# Altium footprint library PCB_TCC.PcbLib: 37 footprints (part 2 of 3)
Each footprint in its own frame and in the unit in brackets; x right, y up, seen from the top. Pads: shape width x height; smd on the part's side, far side on the other; paste and mask are expansions set on the pad; w line width, h text height; cw(c..) or ccw(c..) is an arc to the next point about the centre after c.
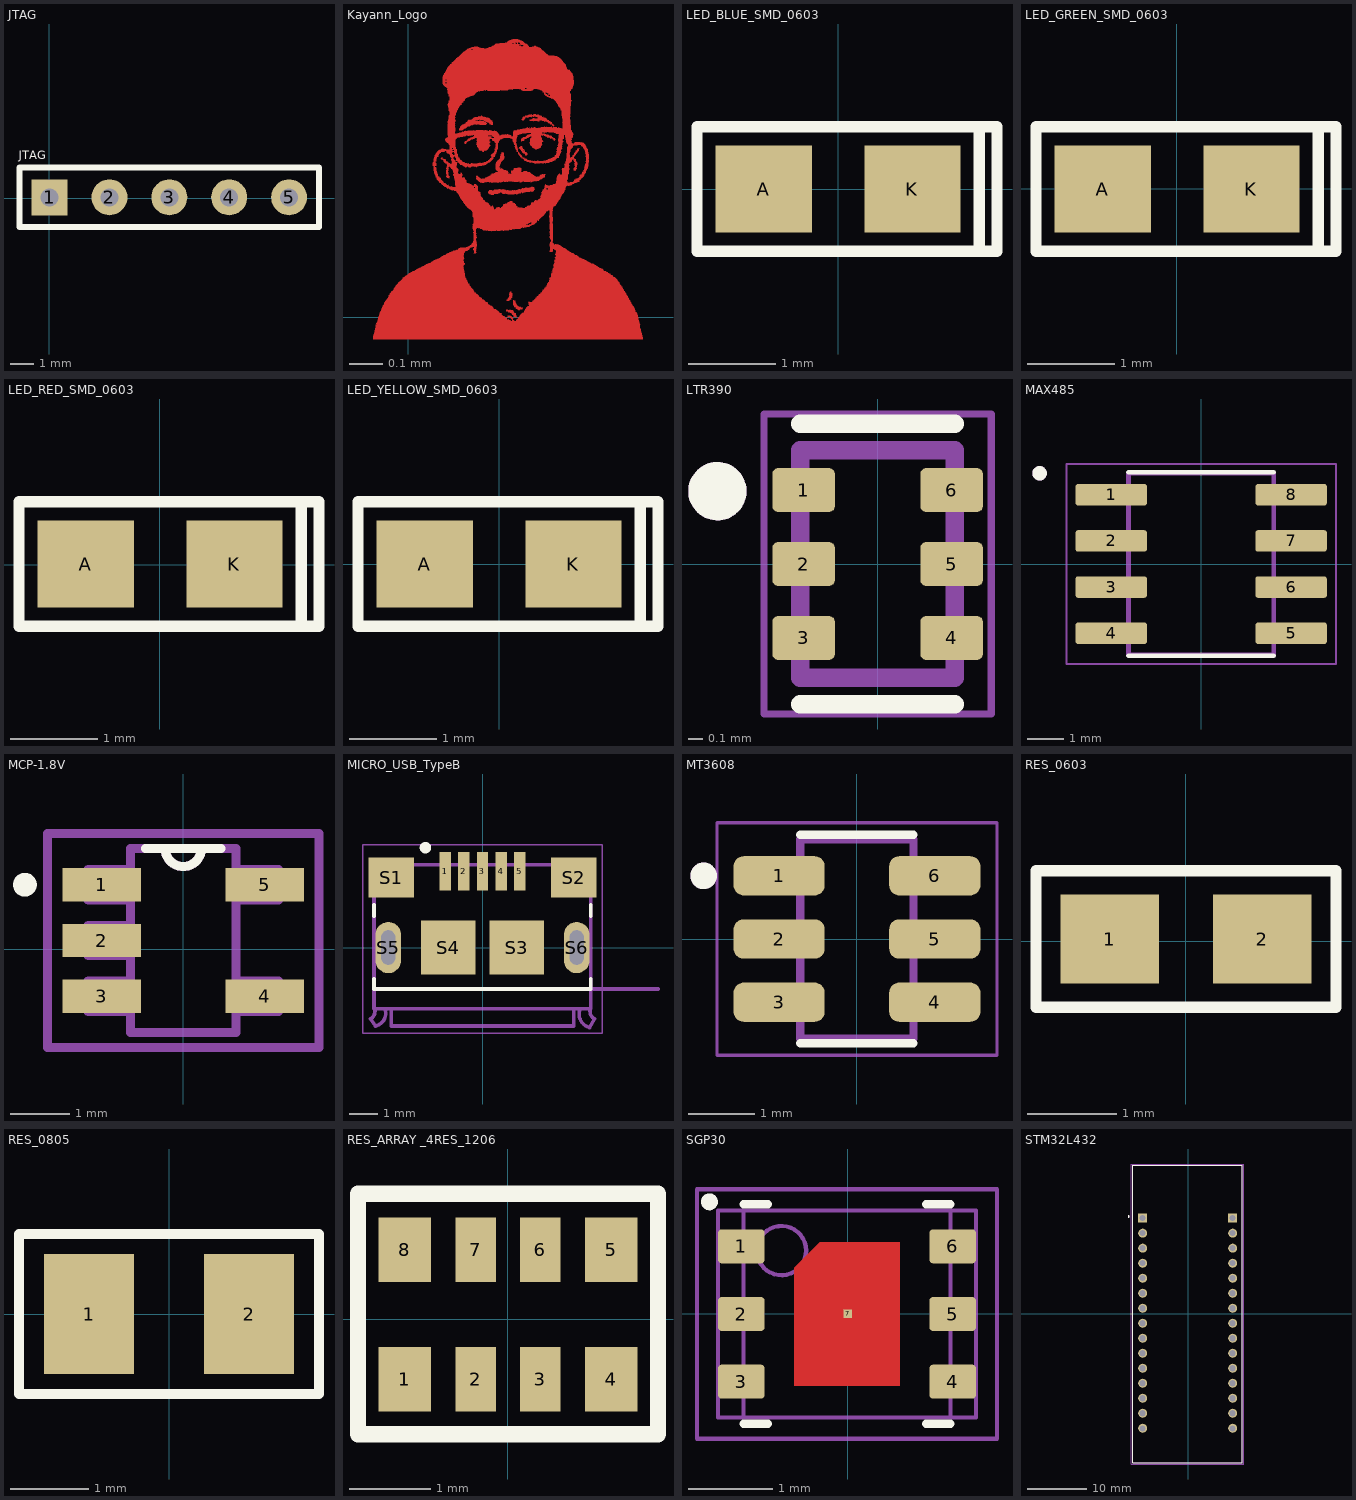
[diagram p1: the footprints below, top view; thin cyan lines are the x and y axes]

## JTAG [mil]
pads (5):
  rect 60x60 hole 30: 1(0.85,1.41)
  round 60 hole 30: 2(100.85,1.41) 3(200.85,1.41) 4(300.85,1.41) 5(400.85,1.41)
Top Overlay:
  lines w10: -49.15,-48.59 -49.15,51.41 450.85,51.41 450.85,-48.59 -49.15,-48.59
  text "JTAG" at -50.22,65.35 h13.78

## Kayann_Logo [mm]
Top Layer:
  drawing of 11 lines, arcs and shapes, not listed

## LED_BLUE_SMD_0603 [mm]
pads (2):
  rect 1.1x1 smd: A(-0.85,0.004) K(0.85,0.004)
Top Overlay:
  lines w0.127: 1.613,-0.708 1.613,0.715 ; -1.612,-0.708 -1.612,0.715 1.817,0.715 1.817,-0.708 -1.612,-0.708
3D body "User Library-led0603_RED.step": height 1.1, standoff 0, extent -0.81,-0.396 0.81,0.404

## LED_GREEN_SMD_0603 [mm]
pads (2):
  rect 1.1x1 smd: A(-0.848,-0.004) K(0.852,-0.004)
Top Overlay:
  lines w0.127: 1.616,-0.715 1.616,0.708 ; -1.61,-0.715 -1.61,0.708 1.819,0.708 1.819,-0.715 -1.61,-0.715
3D body "User Library-led0603_GRE.step": height 1.1, standoff 0, extent -0.808,-0.404 0.812,0.396

## LED_RED_SMD_0603 [mm]
pads (2):
  rect 1.1x1 smd: A(-0.848,0.006) K(0.852,0.006)
Top Overlay:
  lines w0.127: 1.616,-0.705 1.616,0.717 ; -1.61,-0.705 -1.61,0.717 1.819,0.717 1.819,-0.705 -1.61,-0.705
3D body "User Library-led0603_RED.step": height 1.1, standoff 0, extent -0.808,-0.394 0.812,0.406

## LED_YELLOW_SMD_0603 [mm]
pads (2):
  rect 1.1x1 smd: A(-0.85,0.001) K(0.85,0.001)
Top Overlay:
  lines w0.127: 1.613,-0.71 1.613,0.712 ; -1.612,-0.71 -1.612,0.712 1.817,0.712 1.817,-0.71 -1.612,-0.71
3D body "User Library-led0603_YEL.step": height 1.1, standoff 0, extent -0.81,-0.399 0.81,0.401

## LTR390 [mm]
pads (6):
  rrect25% 0.43x0.3 smd: 1(-0.509,0.51) 2(-0.509,0.002) 3(-0.509,-0.506) 4(0.507,-0.506) 5(0.507,0.002) 6(0.507,0.51)
Top Overlay:
  circle w0.2: c-1.101,0.502 r0.1
  lines w0.127: -0.531,-0.962 0.529,-0.962 ; -0.531,0.966 0.529,0.966
Mechanical 13:
  circle w0.2: c-1.101,0.502 r0.1
  lines w0.127: -0.531,-0.778 0.529,-0.778 0.529,0.782 -0.531,0.782 -0.531,-0.778
Mechanical 15:
  lines w0.05: -0.781,-1.028 0.779,-1.028 0.779,1.032 -0.781,1.032 -0.781,-1.028
3D body "step_temp.STEP": height 0.75, standoff 0, extent -0.826,-0.823 0.824,0.827

## MAX485 [mm]
pads (8):
  rrect25% 1.97x0.59 smd: 1(-2.473,1.916) 2(-2.473,0.646) 3(-2.473,-0.624) 4(-2.473,-1.894) 5(2.477,-1.894) 6(2.477,-0.624) 7(2.477,0.646) 8(2.477,1.916)
Top Overlay:
  circle w0.2: c-4.443,2.506 r0.1
  lines w0.127: -1.998,-2.509 2.002,-2.509 ; -1.998,2.531 2.002,2.531
Mechanical 13:
  circle w0.2: c-4.443,2.506 r0.1
  lines w0.127: -1.998,-2.489 -1.998,2.511 2.002,2.511 2.002,-2.489 -1.998,-2.489
Mechanical 15:
  lines w0.05: -3.708,-2.739 -3.708,2.761 3.712,2.761 3.712,-2.739 -3.708,-2.739
3D body "step_temp.STEP": height 1.75, standoff 0, extent -2.998,-2.439 3.002,2.461

## MCP-1.8V [mil]
pads (5):
  rect 52x22 smd: 1(-54.05,42.78) 2(-54.05,5.78) 3(-54.05,-31.22) 4(53.95,-31.22) 5(53.95,42.78)
Top Overlay:
  circle w7.87: c-105.05,42.78 r3.94
  lines w6: -25.05,66.78 -12.05,66.78 ; 24.95,66.78 11.95,66.78 ; -12.05,66.78 ccw(c-0.05,66.78) 11.95,66.78 ; -12.05,66.78 11.95,66.78
Mechanical 13:
  lines w6: -35.05,-41.22 -63.05,-41.22 -63.05,-21.22 -35.05,-21.22 ; -35.05,-41.22 -35.05,-21.22 ; -35.05,-41.22 -35.05,-55.22 34.95,-55.22 34.95,-41.22 ; -35.05,-21.22 -35.05,-4.22 ; -35.05,-4.22 -63.05,-4.22 -63.05,15.78 -35.05,15.78 ; -35.05,-4.22 -35.05,15.78 ; -35.05,15.78 -35.05,32.78 ; -35.05,32.78 -63.05,32.78 -63.05,52.78 -35.05,52.78 ; -35.05,32.78 -35.05,52.78 ; -35.05,52.78 -35.05,66.78 -12.05,66.78 ; -12.05,66.78 ccw(c-0.05,66.78) 11.95,66.78 ; -12.05,66.78 11.95,66.78 ; 11.95,66.78 34.95,66.78 34.95,52.78 ; 34.95,-41.22 62.95,-41.22 62.95,-21.22 34.95,-21.22 ; 34.95,-41.22 34.95,-21.22 ; 34.95,-21.22 34.95,32.78 ; 34.95,32.78 62.95,32.78 62.95,52.78 34.95,52.78 ; 34.95,32.78 34.95,52.78
Mechanical 15:
  lines w6: -90.05,-65.22 -90.05,76.78 89.95,76.78 89.95,-65.22 -90.05,-65.22
3D body "OT.STEP": height 57.09, standoff 0, extent -56.2,-51.31 50.1,62.86

## MICRO_USB_TypeB [mm]
pads (13):
  rect 0.4x1.35 smd: 1(-1.308,2.675) 2(-0.658,2.675) 3(-0.008,2.675) 4(0.642,2.675) 5(1.292,2.675)
  rect 1.6x1.4 smd: S1(-3.208,2.45) S2(3.192,2.45)
  rect 1.9x1.9 smd: S3(1.192,0) S4(-1.208,0)
  oval 0.9x1.8 hole 0.5 slot 1.2 at 90 deg: S5(-3.308,0) S6(3.292,0)
  round 0.5 hole 0.5 unplated: ""(-3.308,0) ""(3.292,0)
Top Overlay:
  circle w0.2: c-2.008,3.5 r0.1
  lines w0.127: -3.808,-1.45 3.792,-1.45 ; -3.808,-1.4 -3.808,-1.1 ; -3.808,1.1 -3.808,1.5 ; 3.792,-1.4 3.792,-1.1 ; 3.792,1.1 3.792,1.5
Mechanical 13:
  lines w0.127: -3.758,-2.75 -3.938,-2.5 ccw(c-4.073,-2.235) -3.808,-2.099 ; -3.754,-2.749 ccw(c-3.858,-2.3) -3.409,-2.196 ; -3.208,-2.2 -3.208,-2.75 3.192,-2.75 3.192,-2.2 ; 3.393,-2.197 ccw(c3.867,-2.325) 3.74,-2.799 ; 3.742,-2.8 3.922,-2.5 cw(c4.057,-2.235) 3.792,-2.099 ; 6.142,-1.45 3.792,-1.45 ; -3.808,-2.1 -3.808,-2.15 3.792,-2.15 3.792,-1.45 ; -3.808,-2.1 -3.808,2.9 3.792,2.9 3.792,-1.45
Mechanical 15:
  lines w0.05: -4.208,-3 -4.208,3.6 4.192,3.6 4.192,-3 -4.208,-3
3D body "step_temp.STEP": height 2.85, standoff -0.75, extent -3.938,-2.76 3.922,2.95

## MT3608 [mm]
pads (6):
  rrect50% 1.37x0.59 smd: 1(-1.167,0.952) 2(-1.167,0.002) 3(-1.167,-0.948) 4(1.173,-0.948) 5(1.173,0.002) 6(1.173,0.952)
Top Overlay:
  circle w0.2: c-2.302,0.952 r0.1
  lines w0.127: -0.847,-1.563 0.853,-1.563 ; -0.847,1.567 0.853,1.567
Mechanical 13:
  circle w0.2: c-2.302,0.952 r0.1
  lines w0.127: -0.847,-1.498 0.853,-1.498 0.853,1.502 -0.847,1.502 -0.847,-1.498
Mechanical 15:
  lines w0.05: -2.102,-1.748 2.108,-1.748 2.108,1.752 -2.102,1.752 -2.102,-1.748
3D body "step_temp.STEP": height 1.45, standoff 0, extent -1.397,-1.448 1.403,1.452

## RES_0603 [mm]
pads (2):
  rect 1.1x1 smd: 1(-0.845,0.023) 2(0.855,0.023)
Top Overlay:
  lines w0.127: -1.672,-0.739 1.681,-0.739 1.681,0.785 -1.672,0.785 -1.672,-0.739
3D body "User Library-RESC1608X05N.step": height 0.45, standoff 0, extent -0.77,-0.402 0.78,0.448

## RES_0805 [mil]
pads (2):
  rect 45x60 smd: 1(-40,0.16) 2(40,0.16)
Top Overlay:
  lines w5: -75,-39.84 -75,40.16 75,40.16 75,-39.84 -75,-39.84
3D body "RESC2012X05N.step": height 17.76, standoff 0, extent -39.37,-24.45 39.37,24.77

## RES_ARRAY _4RES_1206 [mm]
pads (8):
  rect 0.65x0.8 smd: 1(-1.272,-0.74) 4(1.278,-0.74) 5(1.278,0.86) 8(-1.272,0.86)
  rect 0.5x0.8 smd: 2(-0.397,-0.74) 3(0.403,-0.74) 6(0.403,0.86) 7(-0.397,0.86)
Top Overlay:
  lines w0.2: -1.851,-1.419 -1.851,1.553 1.858,1.553 1.858,-1.419 -1.851,-1.419
3D body "User Library-Array-1206-4Way-Var2-1.STEP": height 0.5, standoff 0, extent -1.598,-0.739 1.602,0.861

## SGP30 [mm]
pads (7):
  rrect20% 0.55x0.4 smd: 1(-1.259,0.798) 2(-1.259,-0.002) 3(-1.259,-0.802) 4(1.241,-0.802) 5(1.241,-0.002) 6(1.241,0.798)
  rect 0.1x0.1 smd paste-0.625 mask-0.2: 7(0,0)
Top Layer:
  region: 0.616,0.848 -0.334,0.848 -0.634,0.548 -0.634,-0.852 0.616,-0.852
Top Overlay:
  circle w0.1: c-1.638,1.326 r0.05
  lines w0.1: -1.234,-1.302 -0.944,-1.302 ; -1.234,1.298 -0.944,1.298 ; 0.926,-1.302 1.216,-1.302 ; 0.926,1.298 1.216,1.298
V Cut:
  lines w0.05: -0.259,-0.002 0.241,-0.002 ; -0.009,-0.252 -0.009,0.248 ; -1.784,-1.477 1.766,-1.477 1.766,1.473 -1.784,1.473 -1.784,-1.477
Top Assembly:
  circle w0.05: c-0.784,0.748 r0.292
  lines w0.05: -1.234,-1.227 -1.234,1.223 1.216,1.223 1.216,-1.227 -1.234,-1.227
Top Component Outline:
  lines w0.05: -1.534,-1.227 1.516,-1.227 1.516,1.223 -1.534,1.223 -1.534,-1.227
Top Component Center:
  lines w0.05: -0.259,-0.002 0.241,-0.002 ; -0.009,-0.252 -0.009,0.248
3D body "122023-_Publikationsmodell_SGPC1x_farbig.step": height 0.85, standoff 0, extent -1.229,-1.222 1.211,1.218

## STM32L432 [mm]
pads (30):
  rect 1.53x1.53 hole 1.02: CN3_1(-7.681,16.152) CN4_1(7.559,16.152)
  round 1.53 hole 1.02: CN3_2(-7.681,13.612) CN3_3(-7.681,11.072) CN3_4(-7.681,8.532) CN3_5(-7.681,5.992) CN3_6(-7.681,3.452) CN3_7(-7.681,0.912) CN3_8(-7.681,-1.628) CN3_9(-7.681,-4.168) CN3_10(-7.681,-6.708) CN3_11(-7.681,-9.248) CN3_12(-7.681,-11.788) CN3_13(-7.681,-14.328) CN3_14(-7.681,-16.868) CN3_15(-7.681,-19.408) CN4_2(7.559,13.612) CN4_3(7.559,11.072) CN4_4(7.559,8.532) CN4_5(7.559,5.992) CN4_6(7.559,3.452) CN4_7(7.559,0.912) CN4_8(7.559,-1.628) CN4_9(7.559,-4.168) CN4_10(7.559,-6.708) CN4_11(7.559,-9.248) CN4_12(7.559,-11.788) CN4_13(7.559,-14.328) CN4_14(7.559,-16.868) CN4_15(7.559,-19.408)
Top Overlay:
  circle w0.2: c-10.061,16.437 r0.1
  lines w0.127: -9.331,-25.208 9.209,-25.208 9.209,25.082 -9.331,25.082 -9.331,-25.208
Mechanical 13:
  circle w0.2: c-10.061,16.437 r0.1
  lines w0.127: -9.331,-25.208 -9.331,25.082 9.209,25.082 9.209,-25.208 -9.331,-25.208
Mechanical 15:
  lines w0.05: -9.581,-25.458 -9.581,25.332 9.459,25.332 9.459,-25.458 -9.581,-25.458